# EAGLE library part 2X4 (library headers(2mm))
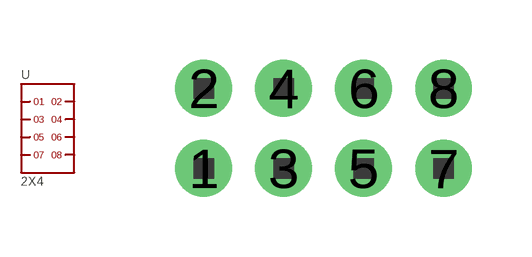
[diagram p4: symbol with the pads of 2X4; footprint 2X4]

Designator prefix -

## 2X4  [2X4]
1  1
2  2
3  3
4  4
5  5
6  6
7  7
8  8

## Footprint 2X4 (pad centres in mm)
drill 0.8 pad 1.422: 1 0,0; 2 0,2; 3 2,0; 4 2,2; 5 4,0; 6 4,2; 7 6,0; 8 6,2